# Altium integrated library Passive.IntLib: 21 symbols
Pins are listed as number, name and electrical type; pins without a type are passive.

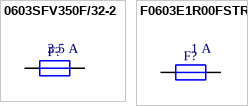
[diagram p0: symbols 0603SFV350F/32-2 to F0603E1R00FSTR]

## 0603SFV350F/32-2
designator F?  Current Rating: 3.5 A  (hidden comment: 0603SFV350F/32-2)
FUSE 0603 3.5A FAST; Manufacturer: TE Connectivity / Raychem; Description: Surface Mount Fuses 32V 3.5A GCERAM 0603; Voltage Rating DC: 32 VDC; Fuse Size / Group: 0603 (1608 metric); Fuse Type: Fast Blow; Interrupt Rating: 35 Amps; Supplier 1: Mouser; Manufacturer Part Number: 0603SFV350F/32-2; RoHS: RoHS Compliant; Category: Surface Mount Fuses; Stock 1: 16912; Pricing 1: 1=0.824, 10=0.621, 100=0.518, 250=0.505, 500=0.427, 1000=0.376, 2500=0.349, 6000=0.337, 12000=0.332 (EUR); Height: 0.51 mm; Length: 1.75 mm; Operating Temperature Range: - 55 C to + 125 C; Packaging: Reel; Product: Surface Mount Fuse; Series: SFV; Width: 0.48 mm; Brand: TE Connectivity / Raychem; Standard Pack Qty: 6000; RoHS - Mouser: Y; Minimum Order Quantity: 1; Reeling: True; ComponentLink1URL: http://www.mouser.com/ds/2/418/NG_CS_CLP00009_A_CLP00009-735180.pdf; ComponentLink1Description: http://www.mouser.com/ds/2/418/NG_CS_CLP00009_A_CLP00009-735180.pdf; Supplier Part Number 1: 650-0603SFV350F/32-2
footprint 0603R_0.45_L (Chip Resistor, 2-Leads, IPC Low Density)
footprint 0603R_0.45_M (Chip Resistor, 2-Leads, IPC Medium Density)
footprint 0603R_0.45_H (Chip Resistor, 2-Leads, IPC Hight Density)
pins: 1, 2

## F0603E1R00FSTR
designator F?  Current Rating: 1 A  (hidden comment: F0603E1R00FSTR)
FUSE 0603 1.0A FAST; Manufacturer: AVX; Description: Surface Mount Fuses 0603 1amp 0.13ohm SMD; Resistance: 0.13 Ohms; Voltage Rating DC: 32 VDC; Fuse Size / Group: 0603 (1608 metric); Fuse Type: Fast Blow; Interrupt Rating: 50 Amps; Supplier 1: Mouser; Manufacturer Part Number: F0603E1R00FSTR; RoHS: RoHS Compliant; Category: Surface Mount Fuses; Stock 1: 6505; Pricing 1: 1=0.256, 50=0.251, 100=0.208, 500=0.173, 1000=0.165, 3000=0.132, 6000=0.128, 9000=0.125 (EUR); Height: 0.63 mm; Length: 1.6 mm; Operating Temperature Range: - 55 C to + 125 C; Packaging: Reel; Product: Surface Mount Fuse; Series: F0603E; Width: 0.81 mm; Brand: AVX; Standard Pack Qty: 3000; Tradename: Accu-Guard II; RoHS - Mouser: Y; Minimum Order Quantity: 1; Reeling: True; ComponentLink1URL: http://www.mouser.com/ds/2/40/accug2-25369.pdf; ComponentLink1Description: http://www.mouser.com/ds/2/40/accug2-25369.pdf; Supplier Part Number 1: 581-F0603E1R00FSTR
footprint 0603R_0.45_L (Chip Resistor, 2-Leads, IPC Low Density)
footprint 0603R_0.45_M (Chip Resistor, 2-Leads, IPC Medium Density)
footprint 0603R_0.45_H (Chip Resistor, 2-Leads, IPC Hight Density)
pins: 1, 2


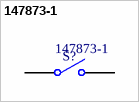
[diagram p1: symbol 147873-1]

## 147873-1
designator S?  Manufacturer Part Number: 147873-1  (hidden comment: *)
Pushbutton Switches SW TACT SMT J-LEAD 5.0MM; Manufacturer: TE Connectivity / Alcoswitch; Actuator: Rectangular; Contact Form: SPST; Current Rating: 50 mA; Illumination: None; Switch Function: OFF - (ON); Voltage Rating DC: 24 VDC; Cap Color: Brown; Life: 40000 Cycles; Supplier 1: Mouser; RoHS: RoHS Compliant; Category: Pushbutton Switches; Stock 1: 15926; Pricing 1: 1=0.302, 10=0.288, 25=0.259, 50=0.230, 100=0.220, 250=0.201, 500=0.192, 1000=0.158, 1800=0.145 (EUR); Contact Plating: Silver; Height: 5 mm; Material: Polyamide; Packaging: Reel; Termination Style: Solder Pin; Brand: TE Connectivity / Alcoswitch; Flammability Rating: UL 94 V-0; Mounting Style: SMD/SMT; Standard Pack Qty: 1800; RoHS - Mouser: Y; Minimum Order Quantity: 1; Reeling: True; ComponentLink1URL: http://www.mouser.com/ds/2/418/NG_CD_147873_K3-196492.pdf; ComponentLink1Description: http://www.mouser.com/ds/2/418/NG_CD_147873_K3-196492.pdf; Supplier Part Number 1: 506-147873-1
footprint 147873-1 (SPST TE Conectivity push button)
pins: 1 COMMON, 2 NO


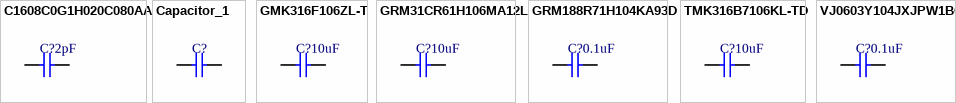
[diagram p2: symbols C1608C0G1H020C080AA to VJ0603Y104JXJPW1BC]

## C1608C0G1H020C080AA
designator C?  value 2pF  (hidden comment: *)
CAP CER 2pF 0603 50V C0G 12.5%; Manufacturer: TDK; Manufacturer Part Number: C1608C0G1H020C080AA; Description: Multilayer Ceramic Capacitors MLCC - SMD/SMT 0603 50volts 2.0pF C0G 0.25pF; Tolerance: 0.25 pF; Type: Commercial Grade MLCC; Voltage Rating DC: 50 VDC; Class: Class 1; Dielectric: C0G (NP0); Supplier 1: Mouser; Supplier Part Number 1: 810-C1608C0G1H020C; RoHS: RoHS Compliant; Category: Multilayer Ceramic Capacitors MLCC - SMD/SMT; Stock 1: 11697; Pricing 1: 1=0.262, 10=0.033, 100=0.023, 500=0.020, 1000=0.015, 4000=0.013, 8000=0.011, 24000=0.010, 48000=0.008 (EUR); Capacitance: 2 pF; Height: 0.8 mm; Length: 1.6 mm; Package/Case: 0603 (1608 metric); Packaging: Reel; Product: General Type MLCCs; Series: C; Termination Style: SMD/SMT; Width: 0.8 mm; Brand: TDK; Case Code - in: 0603; Case Code - mm: 1608; Maximum Operating Temperature: + 125 C; Minimum Operating Temperature: - 55 C; Standard Pack Qty: 4000; Termination: -; RoHS - Mouser: Y; Minimum Order Quantity: 1; Reeling: True; ComponentLink1URL: http://www.mouser.com/ds/2/400/lcc_commercial_general_en-837201.pdf; ComponentLink1Description: http://www.mouser.com/ds/2/400/lcc_commercial_general_en-837201.pdf
footprint 0603C_H (Chip Capacitor, 2-Leads, IPC Hight Density)
footprint 0603C_L (Chip Capacitor, 2-Leads, IPC Low Density)
footprint 0603C_M (Chip Capacitor, 2-Leads, IPC Medium Density)
pins: 1, 2

## Capacitor_1
designator C?  (value not drawn)
pins: 1, 2

## GMK316F106ZL-T
designator C?  value 10uF  (hidden comment: *)
CAP CER 1206 10uF 35V Y5V 20%; Manufacturer: Taiyo Yuden; Manufacturer Part Number: GMK316F106ZL-T; Description: Multilayer Ceramic Capacitors MLCC - SMD/SMT 10uF 35V Y5V +80/-20%1206STD; Tolerance: - 20 %, + 80 %; Type: Multilayer Ceramic Capacitor; Voltage Rating DC: 35 VDC; Qualification: AEC-Q200; Supplier 1: Mouser; RoHS: RoHS Compliant; Category: Multilayer Ceramic Capacitors MLCC - SMD/SMT; Stock 1: 237302; Pricing 1: 1=0.407, 10=0.182, 100=0.104, 500=0.071, 1000=0.057, 2000=0.046, 4000=0.042, 10000=0.040, 24000=0.037 (EUR); Capacitance: 10 uF; Height: 1.6 mm; Length: 3.2 mm; Package/Case: 1206 (3216 metric); Packaging: Reel; Product: General Type MLCCs; Series: M; Termination Style: SMD/SMT; Width: 1.6 mm; Brand: Taiyo Yuden; Case Code - in: 1206; Case Code - mm: 3216; Dielectric: Y5V; Maximum Operating Temperature: + 85 C; Minimum Operating Temperature: - 30 C; Standard Pack Qty: 2000; RoHS - Mouser: Y; Minimum Order Quantity: 1; Reeling: True; ComponentLink1URL: http://www.mouser.com/ds/2/396/mlcc_all_e-541559.pdf; ComponentLink1Description: http://www.mouser.com/ds/2/396/mlcc_all_e-541559.pdf; Supplier Part Number 1: 963-GMK316F106ZL-T
footprint 1206_1.6_H (Chip Capacitor, 2-Leads, IPC Hight Density)
footprint 1206_1.6_L (Chip Capacitor, 2-Leads, IPC Low Density)
footprint 1206_1.6_M (Chip Capacitor, 2-Leads, IPC Medium Density)
pins: 1, 2

## GRM31CR61H106MA12L
designator C?  value 10uF  (hidden comment: *)
CAP CER 1206 10uF 50V X5R 20%; Manufacturer: Murata Electronics; Manufacturer Part Number: GRM31CR61H106MA12L; Description: Multilayer Ceramic Capacitors MLCC - SMD/SMT 1206 10uF 50volts X5R 20%; Type: General Purpose Ceramic Capacitors; Voltage Rating DC: 50 VDC; Class: Class 2; Product Status: New Product; Supplier 1: Mouser; Supplier Part Number 1: 81-GRM31CR61H106MA2L; RoHS: RoHS Compliant; Category: Multilayer Ceramic Capacitors MLCC - SMD/SMT; Stock 1: 0; Pricing 1: 1=0.308, 10=0.168, 100=0.110, 500=0.100, 1000=0.091, 2000=0.063, 10000=0.062, 24000=0.060, 50000=0.053 (EUR); Capacitance: 10 uF; Height: 1.6 mm; Length: 3.2 mm; Package/Case: 1206 (3216 metric); Packaging: Reel; Product: General Type MLCCs; Series: GRM; Termination Style: SMD/SMT; Tolerance: 20 %; Width: 1.6 mm; Brand: Murata Electronics; Case Code - in: 1206; Case Code - mm: 3216; Dielectric: X5R; Maximum Operating Temperature: + 85 C; Minimum Operating Temperature: - 55 C; Standard Pack Qty: 2000; RoHS - Mouser: Y; Minimum Order Quantity: 1; Reeling: True; ComponentLink1URL: http://www.mouser.com/ds/2/281/c02e-2905.pdf; ComponentLink1Description: http://www.mouser.com/ds/2/281/c02e-2905.pdf
footprint 1206_1.6_L (Chip Capacitor, 2-Leads, IPC Low Density)
footprint 1206_1.6_H (Chip Capacitor, 2-Leads, IPC Hight Density)
footprint 1206_1.6_M (Chip Capacitor, 2-Leads, IPC Medium Density)
pins: 1, 2

## GRM188R71H104KA93D
designator C?  value 0.1uF  (hidden comment: *)
CAP CER 0603 0.1uF 50V X7R 10%; Manufacturer: Murata Electronics; Manufacturer Part Number: GRM188R71H104KA93D; Description: Multilayer Ceramic Capacitors MLCC - SMD/SMT 0603 0.1uF 50volts X7R 10%; Type: General Purpose MLCC; Voltage Rating DC: 50 VDC; Qualification: Commercial; Supplier 1: Mouser; Supplier Part Number 1: 81-GRM39X104K50D; RoHS: RoHS Compliant; Category: Multilayer Ceramic Capacitors MLCC - SMD/SMT; Stock 1: 1630978; Pricing 1: 1=0.091, 10=0.019, 100=0.013, 500=0.011, 1000=0.008, 4000=0.008 (EUR); Capacitance: 0.1 uF; Height: 0.8 mm; Length: 1.6 mm; Package/Case: 0603 (1608 metric); Packaging: Reel; Product: General Type MLCCs; Series: GRM; Termination Style: SMD/SMT; Tolerance: 10 %; Width: 0.8 mm; Brand: Murata Electronics; Case Code - in: 0603; Case Code - mm: 1608; Dielectric: X7R; Maximum Operating Temperature: + 125 C; Minimum Operating Temperature: - 55 C; Standard Pack Qty: 4000; RoHS - Mouser: Y; Minimum Order Quantity: 1; Reeling: True; ComponentLink1URL: http://www.mouser.com/ds/2/281/c02e-2905.pdf; ComponentLink1Description: http://www.mouser.com/ds/2/281/c02e-2905.pdf
footprint 0603C_L (Chip Capacitor, 2-Leads, IPC Low Density)
footprint 0603C_H (Chip Capacitor, 2-Leads, IPC Hight Density)
footprint 0603C_M (Chip Capacitor, 2-Leads, IPC Medium Density)
pins: 1, 2

## TMK316B7106KL-TD
designator C?  value 10uF  (hidden comment: *)
CAP CER 1206 10uF 25V X7R 10%; Manufacturer: Taiyo Yuden; Manufacturer Part Number: TMK316B7106KL-TD; Description: Multilayer Ceramic Capacitors MLCC - SMD/SMT 10uF 25V X7R +/-10%1206STD; Type: Multilayer Ceramic Capacitor; Voltage Rating DC: 25 VDC; Qualification: AEC-Q200; Supplier 1: Mouser; Supplier Part Number 1: 963-TMK316B7106KL-TD; RoHS: RoHS Compliant; Category: Multilayer Ceramic Capacitors MLCC - SMD/SMT; Stock 1: 113143; Pricing 1: 1=0.434, 10=0.230, 100=0.135, 500=0.105, 1000=0.082, 2000=0.063, 4000=0.059, 10000=0.055, 24000=0.052 (EUR); Capacitance: 10 uF; Height: 1.6 mm; Length: 3.2 mm; Package/Case: 1206 (3216 metric); Packaging: Reel; Product: General Type MLCCs; Series: M; Termination Style: SMD/SMT; Tolerance: 10 %; Width: 1.6 mm; Brand: Taiyo Yuden; Case Code - in: 1206; Case Code - mm: 3216; Dielectric: X7R; Maximum Operating Temperature: + 125 C; Minimum Operating Temperature: - 55 C; Standard Pack Qty: 2000; RoHS - Mouser: Y; Minimum Order Quantity: 1; Reeling: True; ComponentLink1URL: http://www.mouser.com/ds/2/396/mlcc_all_e-541559.pdf; ComponentLink1Description: http://www.mouser.com/ds/2/396/mlcc_all_e-541559.pdf
footprint 1206_1.6_L (Chip Capacitor, 2-Leads, IPC Low Density)
footprint 1206_1.6_H (Chip Capacitor, 2-Leads, IPC Hight Density)
footprint 1206_1.6_M (Chip Capacitor, 2-Leads, IPC Medium Density)
pins: 1, 2

## VJ0603Y104JXJPW1BC
designator C?  value 0.1uF  (hidden comment: *)
CAP CER 0603 0.1uF 16V X7R 5%; Manufacturer: Vishay / Vitramon; Manufacturer Part Number: VJ0603Y104JXJPW1BC; Type: Ultra Small Commodity MLCCs; Voltage Rating DC: 16 VDC; Supplier 1: Mouser; RoHS: RoHS Compliant; Category: Multilayer Ceramic Capacitors MLCC - SMD/SMT; Stock 1: 30210; Pricing 1: 1=0.091, 50=0.022, 100=0.017, 500=0.015, 1000=0.014, 15000=0.011, 75000=0.010 (EUR); Height: 0.95 mm; Length: 1.6 mm; Package/Case: 0603 (1608 metric); Packaging: Reel; Product: General Type MLCCs; Series: VJ W1BC; Termination Style: SMD/SMT; Tolerance: 5 %; Voltage Rating AC: -; Width: 0.8 mm; Brand: Vishay / Vitramon; Case Code - in: 0603; Case Code - mm: 1608; Dielectric: X7R; Maximum Operating Temperature: + 125 C; Minimum Operating Temperature: - 55 C; Standard Pack Qty: 15000; RoHS - Mouser: Y; Minimum Order Quantity: 1; Reeling: True; ComponentLink1URL: http://www.mouser.com/ds/2/427/vjw1bcbascomseries-223529.pdf; ComponentLink1Description: http://www.mouser.com/ds/2/427/vjw1bcbascomseries-223529.pdf; Supplier Part Number 1: 77-VJ0603Y104JXJPBC; Capacitance: 0.1 uF
footprint 0603C_M (Chip Capacitor, 2-Leads, IPC Medium Density)
footprint 0603C_L (Chip Capacitor, 2-Leads, IPC Low Density)
footprint 0603C_H (Chip Capacitor, 2-Leads, IPC Hight Density)
pins: 1, 2


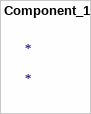
[diagram p3: symbol Component_1]

## Component_1
designator *


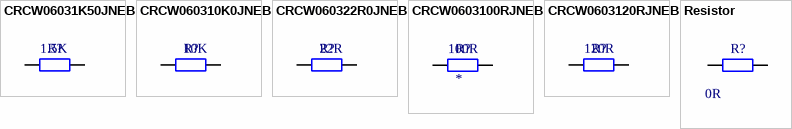
[diagram p4: symbols CRCW06031K50JNEB to Resistor]

## CRCW06031K50JNEB
designator R?  value 1.5K  (hidden comment: *)
RES 0603 1.5K 5% 100mW; Manufacturer: Vishay / Dale; Manufacturer Part Number: CRCW06031K50JNEB; Resistance: 1.5 kOhms; Temperature Coefficient: 200 PPM / K; Voltage Rating: 75 V; Qualification: Commercial; Supplier 1: Mouser; Supplier Part Number 1: 71-CRCW06031K50JNEB; RoHS: RoHS Compliant By Exemption; Category: Thick Film Resistors - SMD; Stock 1: 35392; Pricing 1: 1=0.091, 10=0.009, 100=0.007, 10000=0.003, 30000=0.002 (EUR); Height: 0.45 mm; Length: 1.55 mm; Operating Temperature Range: - 55 C to + 155 C; Package/Case: 0603 (1608 metric); Packaging: Reel; Power Rating: 100 mW; Product: Thick Film Resistors SMD; Series: CRCW; Termination Style: SMD/SMT; Tolerance: 5 %; Width: 0.85 mm; Brand: Vishay / Dale; Case Code - in: 0603; Case Code - mm: 1608; Standard Pack Qty: 10000; RoHS - Mouser: E; Minimum Order Quantity: 1; Reeling: True; ComponentLink1URL: http://www.mouser.com/ds/2/427/dcrcwe3-109170.pdf; ComponentLink1Description: http://www.mouser.com/ds/2/427/dcrcwe3-109170.pdf
footprint 0603R_0.45_L (Chip Resistor, 2-Leads, IPC Low Density)
footprint 0603R_0.45_M (Chip Resistor, 2-Leads, IPC Medium Density)
footprint 0603R_0.45_H (Chip Resistor, 2-Leads, IPC Hight Density)
pins: 1, 2

## CRCW060310K0JNEB
designator R?  value 10K  (hidden comment: *)
RES 0603 10K 5% 100mW; Manufacturer: Vishay / Dale; Manufacturer Part Number: CRCW060310K0JNEB; Resistance: 10 kOhms; Temperature Coefficient: 200 PPM / K; Voltage Rating: 75 V; Qualification: Commercial; Supplier 1: Mouser; Supplier Part Number 1: 71-CRCW060310K0JNEB; RoHS: RoHS Compliant By Exemption; Category: Thick Film Resistors - SMD; Stock 1: 23952; Pricing 1: 1=0.091, 10=0.009, 100=0.007, 10000=0.003, 30000=0.002 (EUR); Height: 0.45 mm; Length: 1.55 mm; Operating Temperature Range: - 55 C to + 155 C; Package/Case: 0603 (1608 metric); Packaging: Reel; Power Rating: 100 mW; Product: Thick Film Resistors SMD; Series: CRCW; Termination Style: SMD/SMT; Tolerance: 5 %; Width: 0.85 mm; Brand: Vishay / Dale; Case Code - in: 0603; Case Code - mm: 1608; Standard Pack Qty: 10000; RoHS - Mouser: E; Minimum Order Quantity: 1; Reeling: True; ComponentLink1URL: http://www.mouser.com/ds/2/427/dcrcwe3-109170.pdf; ComponentLink1Description: http://www.mouser.com/ds/2/427/dcrcwe3-109170.pdf
footprint 0603R_0.45_L (Chip Resistor, 2-Leads, IPC Low Density)
footprint 0603R_0.45_M (Chip Resistor, 2-Leads, IPC Medium Density)
footprint 0603R_0.45_H (Chip Resistor, 2-Leads, IPC Hight Density)
pins: 1, 2

## CRCW060322R0JNEB
designator R?  value 22R  (hidden comment: *)
RES 0603 22R 5% 100mW; Manufacturer: Vishay / Dale; Manufacturer Part Number: CRCW060322R0JNEB; Resistance: 22 Ohms; Temperature Coefficient: 200 PPM / K; Voltage Rating: 75 V; Qualification: Commercial; Supplier 1: Mouser; Supplier Part Number 1: 71-CRCW060322R0JNEB; RoHS: RoHS Compliant By Exemption; Category: Thick Film Resistors - SMD; Stock 1: 41125; Pricing 1: 1=0.091, 10=0.011, 100=0.008, 10000=0.004, 30000=0.002 (EUR); Height: 0.45 mm; Length: 1.55 mm; Operating Temperature Range: - 55 C to + 155 C; Package/Case: 0603 (1608 metric); Packaging: Reel; Power Rating: 100 mW; Product: Thick Film Resistors SMD; Series: CRCW; Termination Style: SMD/SMT; Tolerance: 5 %; Width: 0.85 mm; Brand: Vishay / Dale; Case Code - in: 0603; Case Code - mm: 1608; Standard Pack Qty: 10000; RoHS - Mouser: E; Minimum Order Quantity: 1; Reeling: True; ComponentLink1URL: http://www.mouser.com/ds/2/427/dcrcwe3-109170.pdf; ComponentLink1Description: http://www.mouser.com/ds/2/427/dcrcwe3-109170.pdf
footprint 0603R_0.45_L (Chip Resistor, 2-Leads, IPC Low Density)
footprint 0603R_0.45_M (Chip Resistor, 2-Leads, IPC Medium Density)
footprint 0603R_0.45_H (Chip Resistor, 2-Leads, IPC Hight Density)
pins: 1, 2

## CRCW0603100RJNEB
designator R?  value 100R
RES 0603 100R 5% 100mW; Manufacturer: Vishay / Dale; Manufacturer Part Number: CRCW0603100RJNEB; Resistance: 100 Ohms; Temperature Coefficient: 200 PPM / K; Voltage Rating: 75 V; Qualification: Commercial; Supplier 1: Mouser; Supplier Part Number 1: 71-CRCW0603100RJNEB; RoHS: RoHS Compliant By Exemption; Category: Thick Film Resistors - SMD; Stock 1: 27634; Pricing 1: 1=0.091, 10=0.009, 100=0.007, 1000=0.005, 10000=0.003, 30000=0.002 (EUR); Height: 0.45 mm; Length: 1.55 mm; Operating Temperature Range: - 55 C to + 155 C; Package/Case: 0603 (1608 metric); Packaging: Reel; Power Rating: 100 mW; Product: Thick Film Resistors SMD; Series: CRCW; Termination Style: SMD/SMT; Tolerance: 5 %; Width: 0.85 mm; Brand: Vishay / Dale; Case Code - in: 0603; Case Code - mm: 1608; Standard Pack Qty: 10000; RoHS - Mouser: E; Minimum Order Quantity: 1; Reeling: True; ComponentLink1URL: http://www.mouser.com/ds/2/427/dcrcwe3-109170.pdf; ComponentLink1Description: http://www.mouser.com/ds/2/427/dcrcwe3-109170.pdf
footprint 0603R_0.45_L (Chip Resistor, 2-Leads, IPC Low Density)
footprint 0603R_0.45_M (Chip Resistor, 2-Leads, IPC Medium Density)
footprint 0603R_0.45_H (Chip Resistor, 2-Leads, IPC Hight Density)
pins: 1, 2

## CRCW0603120RJNEB
designator R?  value 120R  (hidden comment: *)
RES 0603 120R 5% 100mW; Manufacturer: Vishay / Dale; Manufacturer Part Number: CRCW0603120RJNEB; Resistance: 120 Ohms; Temperature Coefficient: 200 PPM / K; Voltage Rating: 75 V; Qualification: Commercial; Supplier 1: Mouser; Supplier Part Number 1: 71-CRCW0603120RJNEB; RoHS: RoHS Compliant By Exemption; Category: Thick Film Resistors - SMD; Stock 1: 61795; Pricing 1: 1=0.091, 10=0.009, 100=0.007, 10000=0.003, 30000=0.002 (EUR); Height: 0.45 mm; Length: 1.55 mm; Operating Temperature Range: - 55 C to + 155 C; Package/Case: 0603 (1608 metric); Packaging: Reel; Power Rating: 100 mW; Product: Thick Film Resistors SMD; Series: CRCW; Termination Style: SMD/SMT; Tolerance: 5 %; Width: 0.85 mm; Brand: Vishay / Dale; Case Code - in: 0603; Case Code - mm: 1608; Standard Pack Qty: 10000; RoHS - Mouser: E; Minimum Order Quantity: 1; Reeling: True; ComponentLink1URL: http://www.mouser.com/ds/2/427/dcrcwe3-109170.pdf; ComponentLink1Description: http://www.mouser.com/ds/2/427/dcrcwe3-109170.pdf
footprint 0603R_0.45_L (Chip Resistor, 2-Leads, IPC Low Density)
footprint 0603R_0.45_M (Chip Resistor, 2-Leads, IPC Medium Density)
footprint 0603R_0.45_H (Chip Resistor, 2-Leads, IPC Hight Density)
pins: 1, 2

## Resistor
designator R?, comment value 0R  (hidden comment: Generic resitor)
footprint 0603R_0.45_L (Chip Resistor, 2-Leads, IPC Low Density)
footprint 0603R_0.45_M (Chip Resistor, 2-Leads, IPC Medium Density)
footprint 0603R_0.45_H (Chip Resistor, 2-Leads, IPC Hight Density)
pins: 1, 2


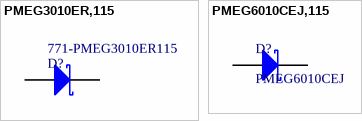
[diagram p5: symbols PMEG3010ER,115 to PMEG6010CEJ,115]

## PMEG3010ER,115
designator D?  Supplier Part Number 1: 771-PMEG3010ER115  (hidden comment: *)
Schottky Diodes & Rectifiers SCHOTTKY DIODE; Manufacturer: NXP Semiconductors; Manufacturer Part Number: PMEG3010ER,115; Configuration: Single; If - Forward Current: 1 A; Ifsm - Forward Surge Current: 50 A; Ir - Reverse Current: 1500 uA; Pd - Power Dissipation: 570 mW; Vf - Forward Voltage: 320 mV; Vrrm - Repetitive Reverse Voltage: 30 V; Supplier 1: Mouser; RoHS: RoHS Compliant; Category: Schottky Diodes & Rectifiers; Stock 1: 26531; Pricing 1: 1=0.380, 10=0.288, 100=0.161, 1000=0.117, 3000=0.100, 9000=0.094, 24000=0.086, 45000=0.083 (EUR); Length: 2.8 mm; Package / Case: SOD-123; Packaging: Reel; Product: Schottky Rectifiers; Technology: Si; Termination Style: SMD/SMT; Type: Schottky Diode; Width: 1.9 mm; Brand: NXP Semiconductors; Mounting Style: SMD/SMT; Maximum Operating Temperature: + 150 C; Minimum Operating Temperature: - 55 C; Standard Pack Qty: 3000; RoHS - Mouser: Y; Minimum Order Quantity: 1; Reeling: True; ComponentLink1URL: http://www.mouser.com/ds/2/302/PMEG3010ER-842338.pdf; ComponentLink1Description: http://www.mouser.com/ds/2/302/PMEG3010ER-842338.pdf
footprint SOD123W_L (SODFL, 2-Leads, Body 1.70x3.50mm, IPC Low Density)
footprint SOD123W_M (SODFL, 2-Leads, Body 1.70x3.50mm, IPC Medium Density)
footprint SOD123W_H (SODFL, 2-Leads, Body 1.70x3.50mm, IPC High Density)
pins: 1 K, 2 A

## PMEG6010CEJ,115
designator D?, comment PMEG6010CEJ
DIODE SCHOTTKY 60V 1A SOD323F; Manufacturer: NXP USA Inc.; Manufacturer Part Number: PMEG6010CEJ,115; Current - Average Rectified (Io): 1A (DC); Voltage - Forward (Vf) (Max) @ If: 660mV @ 1A; Speed: Fast Recovery =< 500ns, > 200mA (Io); Current - Reverse Leakage @ Vr: 50µA @ 60V; Capacitance @ Vr, F: 68pF @ 1V, 1MHz; Supplier 1: Digi-Key; Supplier Part Number 1: 568-4138-1-ND; RoHS: RoHS Compliant; Category: Discrete Semiconductor Products; Stock 1: 17553; Pricing 1: 1=0.38, 10=0.308, 100=0.2102, 500=0.15734, 1000=0.11785 (USD); Packaging: Cut Tape (CT); Part Status: Active; Diode Type: Schottky; Voltage - DC Reverse (Vr) (Max): 60V; Reverse Recovery Time (trr): -; Mounting Type: Surface Mount; Package / Case: SC-90, SOD-323F; Supplier Device Package: SOD-323F; Operating Temperature - Junction: 150°C (Max); ComponentLink1URL: http://www.nxp.com/documents/data_sheet/PMEG6010CEH_PMEG6010CEJ.pdf; ComponentLink1Description: http://www.nxp.com/documents/data_sheet/PMEG6010CEH_PMEG6010CEJ.pdf
footprint SOD323M (SODFL, 2-Leads, Body 1,25x2,50mm, IPC Low Density)
footprint SOD323N (SODFL, 2-Leads, Body 1,25x2,50mm, IPC Medium Density)
footprint SOD323L (SODFL, 2-Leads, Body 1,25x2,50mm, IPC High Density)
pins: 1 K, 2 A


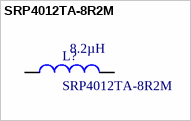
[diagram p6: symbol SRP4012TA-8R2M]

## SRP4012TA-8R2M
designator L?  Inductance: 8.2µH
FIXED IND 8.2UH 1.4A 376 MOHM; Manufacturer: Bourns Inc.; Type: Wirewound; Material - Core: Carbonyl Powder; Tolerance: ±20%; Current - Saturation: 1.6A; Shielding: Shielded; DC Resistance (DCR): 376 mOhm Max; Q @ Freq: 10 @ 100kHz; Frequency - Self Resonant: 25MHz; Frequency - Test: 100kHz; Supplier 1: Digi-Key; Supplier Part Number 1: SRP4012TA-8R2MCT-ND; Manufacturer Part Number: SRP4012TA-8R2M; RoHS: RoHS Compliant; Category: Inductors, Coils, Chokes; Stock 1: 1984; Pricing 1: 1=1.18, 10=1.11, 25=1.036, 50=0.888, 100=0.8436, 250=0.7696, 500=0.6808, 1000=0.6216 (USD); Packaging: Cut Tape (CT); Part Status: Active; Current Rating: 1.4A; Ratings: AEC-Q200; Operating Temperature: -40°C ~ 150°C; Mounting Type: Surface Mount; Package / Case: 2-SMD; Size / Dimension: 0.175" L x 0.160" W (4.45mm x 4.06mm); Height - Seated (Max): 0.047" (1.20mm); ComponentLink1URL: http://www.bourns.com/docs/Product-Datasheets/SRP4012TA.pdf; ComponentLink1Description: http://www.bourns.com/docs/Product-Datasheets/SRP4012TA.pdf
footprint INDP4541X12M (Precision Wire Wound Inductor, 2-Leads, Body 4,45x4,06mm, IPC Low Density)
footprint INDP4541X12N (Precision Wire Wound Inductor, 2-Leads, Body 4,45x4,06mm, IPC Medium Density)
footprint INDP4541X12L (Precision Wire Wound Inductor, 2-Leads, Body 4,45x4,06mm, IPC High Density)
pins: 1, 2


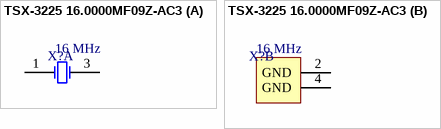
[diagram p7: symbol TSX-3225 16.0000MF09Z-AC3]

## TSX-3225 16.0000MF09Z-AC3
designator X?, comment Frequency: 16 MHz  (hidden comment: CRYS 16MHz 9pF)
Crystals 16MHz 10ppm 9pF -20C +75C; Manufacturer: Epson Timing; Manufacturer Part Number: TSX-3225 16.0000MF09Z-AC3; ESR: 60 Ohms; Supplier 1: Mouser; RoHS: RoHS Compliant; Category: Crystals; Stock 1: 36861; Pricing 1: 1=0.466, 10=0.350, 100=0.311, 250=0.295, 500=0.273, 1000=0.249, 2000=0.233, 5000=0.225, 10000=0.218 (EUR); Frequency Stability: 10 PPM; Height: 0.6 mm; Length: 3.2 mm; Load Capacitance: 9 pF; Operating Temperature Range: - 20 C to + 75 C; Package / Case: 1210 (3225 metric); Packaging: Reel; Series: FA-238V/FA-238/TSX-3225; Termination Style: SMD/SMT; Tolerance: 10 PPM; Type: MHz Range Crystal Unit; Width: 2.5 mm; Brand: Epson Timing; Mounting Style: SMD/SMT; Standard Pack Qty: 1000; RoHS - Mouser: Y; Minimum Order Quantity: 1; Reeling: True; ComponentLink1URL: http://www.mouser.com/ds/2/137/1721499-465440.pdf; ComponentLink1Description: http://www.mouser.com/ds/2/137/1721499-465440.pdf; Supplier Part Number 1: 732-TX325-16F09Z-AC3
footprint TSX-3225 16.0000MF09Z-AC3
part A pins: 1 X1, 3 X2
part B pins: 2 GND (power), 4 GND (power)